# EAGLE library part CD74HC04M (library FarnellThings)
High-Speed CMOS Logic Hex Inverter
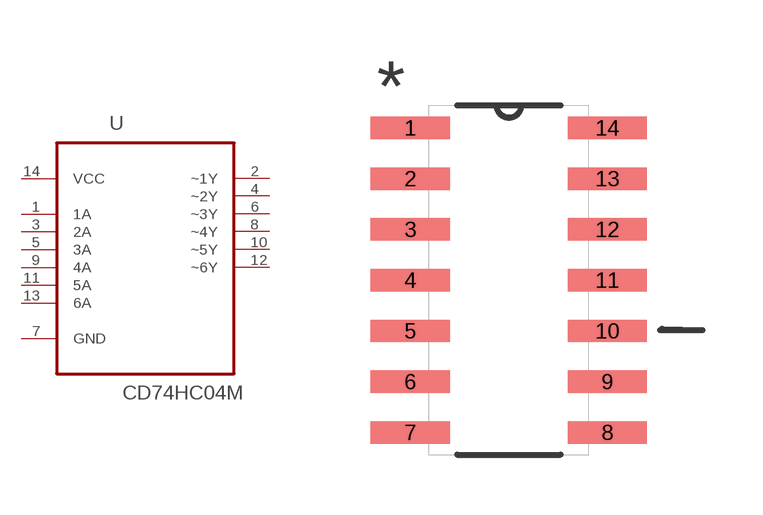
[diagram p5: symbol with the pads of SOIC127P600X175-14N; footprint SOIC127P600X175-14N]

Designator prefix U

## CD74HC04M (MPN: CD74HC04M; OC_FARNELL: 1103154; OC_NEWARK: 06F3024; PACKAGE: SOIC-14; SUPPLIER: Texas Instruments)  [SOIC127P600X175-14N]
1  1A  in
2  ~1Y  out
3  2A  in
4  ~2Y  out
5  3A  in
6  ~3Y  out
7  GND  pas
8  ~4Y  out
9  4A  in
10  ~5Y  out
11  5A  in
12  ~6Y  out
13  6A  in
14  VCC  pwr

## Footprint SOIC127P600X175-14N (pad centres in mm)
smd 1.981 x 0.559: 1 -2.464,3.81; 2 -2.464,2.54; 3 -2.464,1.27; 4 -2.464,0; 5 -2.464,-1.27; 6 -2.464,-2.54; 7 -2.464,-3.81; 8 2.464,-3.81; 9 2.464,-2.54; 10 2.464,-1.27; 11 2.464,0; 12 2.464,1.27; 13 2.464,2.54; 14 2.464,3.81